# Altium footprint library RAK4260_15X15_40P.PcbLib: 1 footprints
Each footprint in its own frame and in the unit in brackets; x right, y up, seen from the top. Pads: shape width x height; smd on the part's side, far side on the other; paste and mask are expansions set on the pad; w line width, h text height; cw(c..) or ccw(c..) is an arc to the next point about the centre after c.
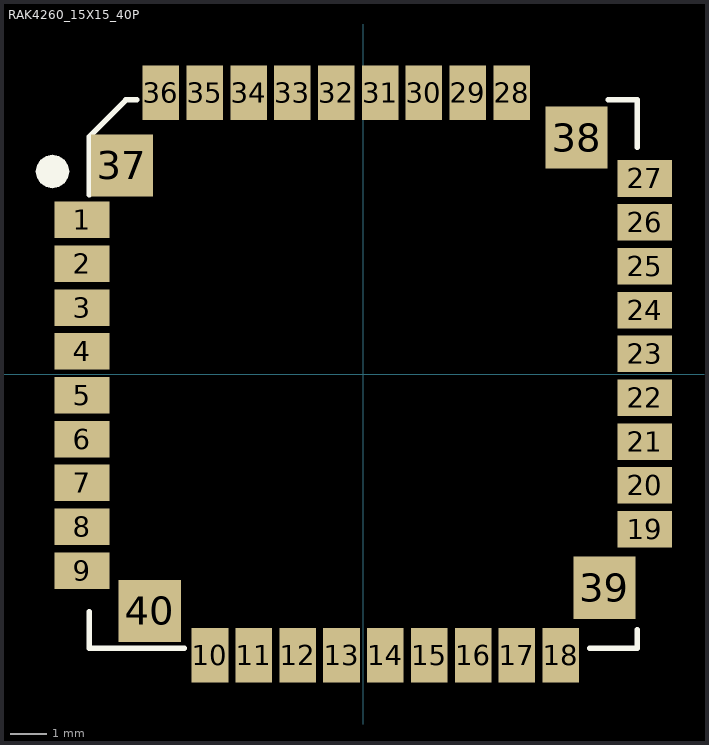
[diagram p0: the footprint, top view; thin cyan lines are the x and y axes]

## RAK4260_15X15_40P [mm]
pads (40):
  rect 1.5x1 smd mask+0.05: 1(-7.7,4.218) 2(-7.7,3.018) 3(-7.7,1.818) 4(-7.7,0.618) 5(-7.7,-0.582) 6(-7.7,-1.782) 7(-7.7,-2.982) 8(-7.7,-4.182) 9(-7.7,-5.382) 19(7.7,-4.249) 20(7.7,-3.049) 21(7.7,-1.849) 22(7.7,-0.649) 23(7.7,0.551) 24(7.7,1.751) 25(7.7,2.951) 26(7.7,4.151) 27(7.7,5.351)
  rect 1x1.5 smd mask+0.05: 10(-4.2,-7.7) 11(-3,-7.7) 12(-1.8,-7.7) 13(-0.6,-7.7) 14(0.6,-7.7) 15(1.8,-7.7) 16(3,-7.7) 17(4.2,-7.7) 18(5.4,-7.7) 28(4.055,7.7) 29(2.855,7.7) 30(1.655,7.7) 31(0.455,7.7) 32(-0.745,7.7) 33(-1.945,7.7) 34(-3.145,7.7) 35(-4.345,7.7) 36(-5.545,7.7)
  rect 1.702x1.702 smd mask+0.05: 37(-6.611,5.708) 38(5.835,6.47) 39(6.597,-5.849) 40(-5.849,-6.484)
Top Overlay:
  region: -8.511,5.087 -8.337,5.122 -8.189,5.221 -8.09,5.369 -8.055,5.543 -8.09,5.717 -8.189,5.865 -8.337,5.964 -8.511,5.999 -8.685,5.964 -8.833,5.865 -8.932,5.717 -8.967,5.543 -8.932,5.369 -8.833,5.221 -8.685,5.122
  lines w0.15: -7.5,-6.5 -7.5,-7.5 -4.9,-7.5 ; -7.5,4.9 -7.5,6.5 -6.5,7.5 -6.2,7.5 ; 6.2,-7.5 7.5,-7.5 7.5,-7 ; 6.7,7.5 7.5,7.5 7.5,6.2